# Altium footprint library DFN1006.PcbLib: 1 footprints
Each footprint in its own frame and in the unit in brackets; x right, y up, seen from the top. Pads: shape width x height; smd on the part's side, far side on the other; paste and mask are expansions set on the pad; w line width, h text height; cw(c..) or ccw(c..) is an arc to the next point about the centre after c.
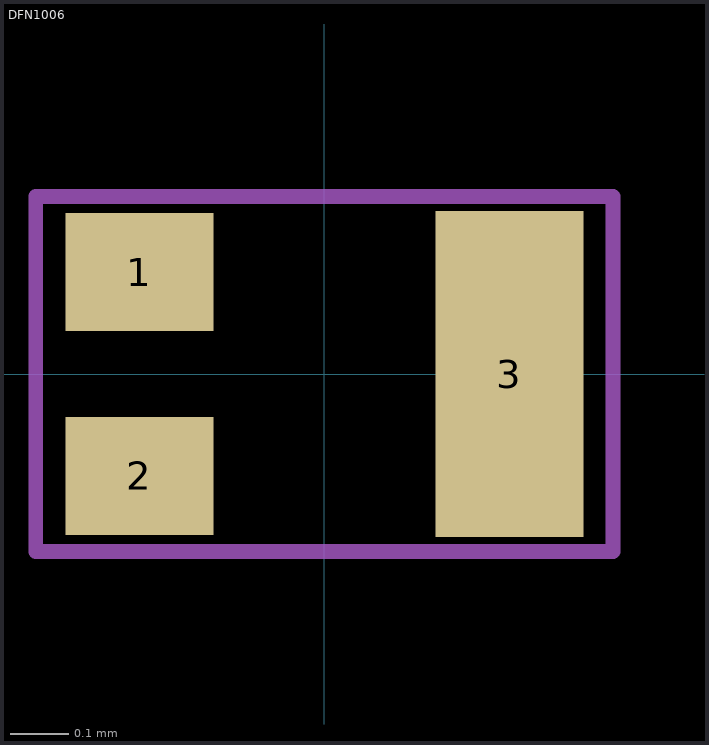
[diagram p0: the footprint, top view; thin cyan lines are the x and y axes]

## DFN1006 [mil]
pads (3):
  rect 10x8 smd paste+0 mask+0: 1(-12.5,6.89) 2(-12.5,-6.89)
  rect 10x22 smd paste+0 mask+0: 3(12.5,0)
Mechanical 13:
  lines w1: -19.5,-12 19.5,-12 19.5,12 -19.5,12 -19.5,-12
3D body "TRANS_RV2C001Z_ROM.step": height 16.26, standoff 0, extent -19.49,-12.01 19.49,12.01